# Altium footprint library GTG1615RGB.PcbLib: 1 footprints
Each footprint in its own frame and in the unit in brackets; x right, y up, seen from the top. Pads: shape width x height; smd on the part's side, far side on the other; paste and mask are expansions set on the pad; w line width, h text height; cw(c..) or ccw(c..) is an arc to the next point about the centre after c.
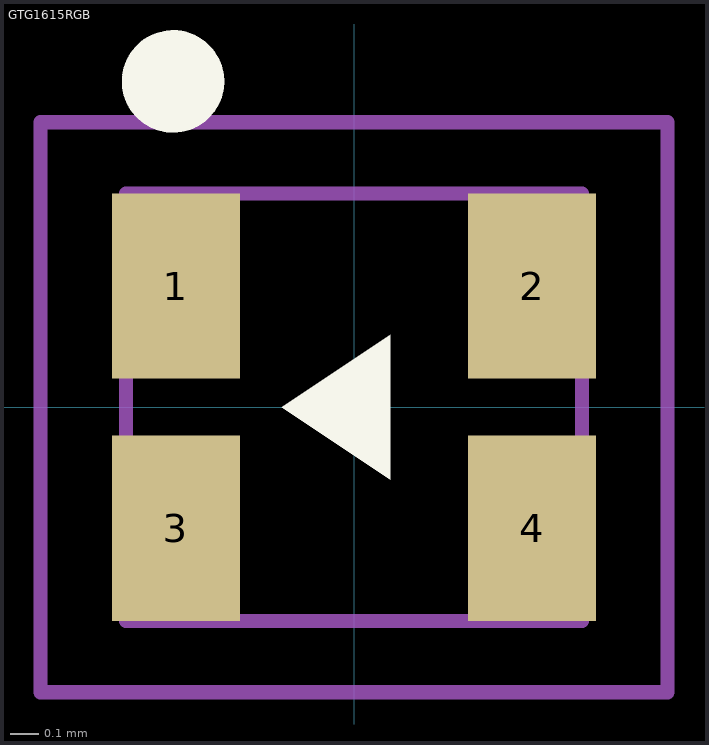
[diagram p0: the footprint, top view; thin cyan lines are the x and y axes]

## GTG1615RGB [mm]
height 0.6
pads (4):
  rect 0.45x0.65 smd: 1(-0.625,0.425) 2(0.625,0.425) 3(-0.625,-0.425) 4(0.625,-0.425)
Top Overlay:
  circle w0.18: c-0.635,1.143 r0.09
  region: -0.254,0 0.127,0.254 0.127,-0.254
Mechanical 13:
  lines w0.05: -0.8,-0.75 -0.8,0.75 0.8,0.75 0.8,-0.75 -0.8,-0.75
Mechanical 15:
  lines w0.05: -1.1,-1 1.1,-1 1.1,1 -1.1,1 -1.1,-1
3D body "LED1.stp": height 0.34, standoff -0.02, extent -0.8,-0.75 0.8,0.75
3D body "LED2.stp": height 0.52, standoff 0.2, extent -0.45,-0.74 0.45,0.74